# EAGLE library part BOARD_CPU_AKI16F (library mylib_20130829)
CPU BOARD : PIC 16F Series (AKIZUKI Version)
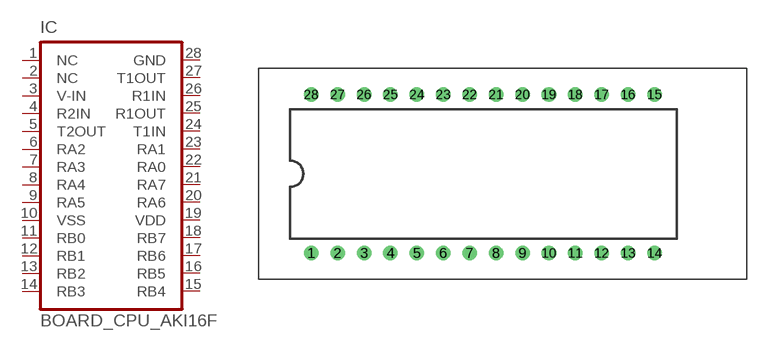
[diagram p1: symbol with the pads of IC_SOCKET_DIL_28_600MIL_AKI; footprint IC_SOCKET_DIL_28_600MIL_AKI]

Designator prefix IC

## BOARD_CPU_AKI16F628, BOARD_CPU_AKI16F88  [IC_SOCKET_DIL_28_600MIL_AKI]
1  NC
2  NC
3  V-IN
4  R2IN
5  T2OUT
6  RA2
7  RA3
8  RA4
9  RA5
10  VSS  pwr
11  RB0
12  RB1
13  RB2
14  RB3
15  RB4
16  RB5
17  RB6
18  RB7
19  VDD  pwr
20  RA6
21  RA7
22  RA0
23  RA1
24  T1IN
25  R1OUT
26  R1IN
27  T1OUT
28  GND

## Footprint IC_SOCKET_DIL_28_600MIL_AKI (pad centres in mm)
drill 0.889: 1 -15.24,-7.62; 2 -12.7,-7.62; 3 -10.16,-7.62; 4 -7.62,-7.62; 5 -5.08,-7.62; 6 -2.54,-7.62; 7 0,-7.62; 8 2.54,-7.62; 9 5.08,-7.62; 10 7.62,-7.62; 11 10.16,-7.62; 12 12.7,-7.62; 13 15.24,-7.62; 14 17.78,-7.62; 15 17.78,7.62; 16 15.24,7.62; 17 12.7,7.62; 18 10.16,7.62; 19 7.62,7.62; 20 5.08,7.62; 21 2.54,7.62; 22 0,7.62; 23 -2.54,7.62; 24 -5.08,7.62; 25 -7.62,7.62; 26 -10.16,7.62; 27 -12.7,7.62; 28 -15.24,7.62